# Altium schematic symbol library FinalProjectSchLib.SchLib: 27 symbols
Pins are listed as number, name and electrical type; pins without a type are passive.

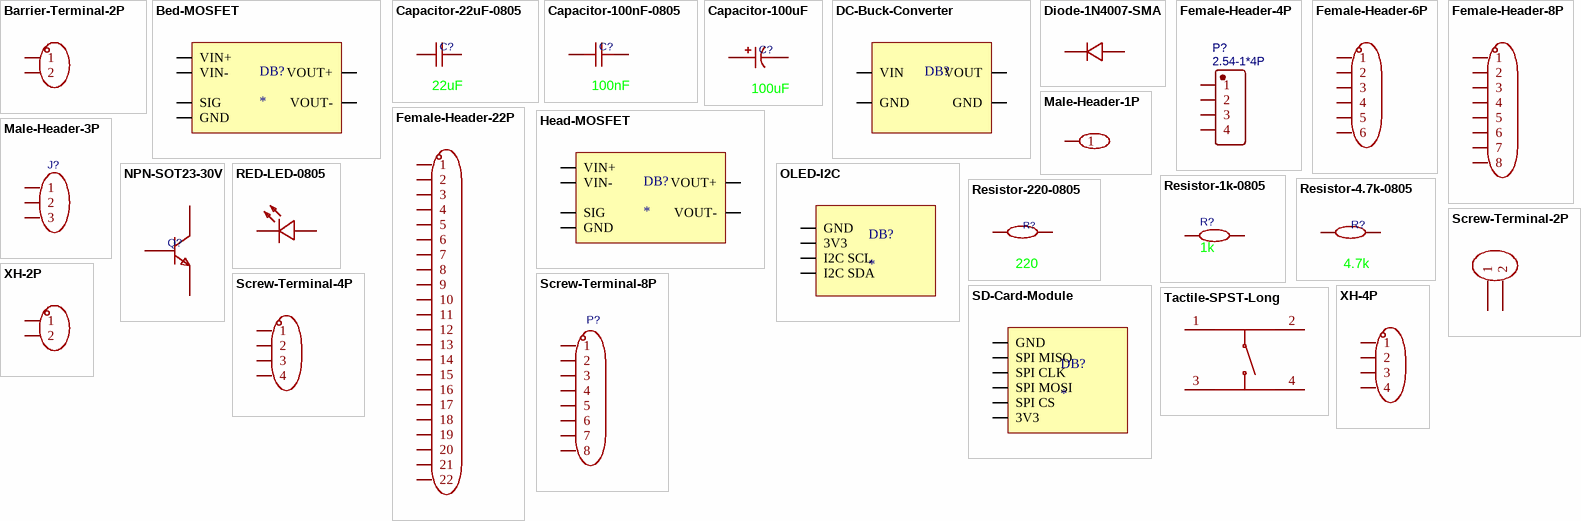
[diagram p0: symbols Barrier-Terminal-2P to XH-4P]

## Barrier-Terminal-2P
designator P?, comment dbt30s-7.62-2p-bk-p  (value not drawn)
Barrier Type:2-Side Pitch:7.62mm Number of Positions or Pins:1x2P Mounting Type:Straight Pin Location:Side Mount Number of Pins:2P Number of Rows:1 Number of PINs Per Row:2 Current Rating:15A Voltage Rating (Max):300V Wire Gauge - AWG:14~22 Wire Gauge - m; Manufacturer: DORABO(地博电气); AddInBom: yes; ModelId: 25793e1725c44f5c9873d21a6b0bc5c1; ModelName: CONN-TH_DBT30S-7.62-2P; ModelTransform: 659.0538,531.495,0,0,0,0,0,-150.276,-169.291; Barrier Type: 2-Side; Pitch: 7.62mm; Number of Positions or Pins: 1x2P; Number of PINs Per Row: 2; Current Rating: 15A; Voltage Rating (Max): 300V; Wire Gauge - AWG: 14~22; Symbol: DBT30S-7.62-2P; LCSC Part Name: 7.62mm 1x2P 直插 边脚 排数:1 每排P数:2; SupplierPart: C918082; ManufacturerPart: DBT30S-7.62-2P-BK-P; Supplier Footprint: 插件,P=7.62mm; JLCPCB Part Class: Extended Part; Datasheet: https://item.szlcsc.com/datasheet/DBT30S-7.62-2P-BK-P/993661.html; Supplier: LCSC; ConvertToPcb: yes; FootprintName: CONN-TH_DBT30S-7.62-2P; Mounting Type: Straight; Pin Location: Side Mount; Number of Pins: 2P; Number of Rows: 1; Wire Gauge - mm2: -; Operating Temperature: -40℃~+105℃; Color: Black
footprint Barrier-Terminal-2P
pins: 1, 2

## Bed-MOSFET
designator DB?
footprint Bed-MOSFET
pins: 1 VIN+, 2 VIN-, 3 SIG, 4 GND, 5 VOUT+, 6 VOUT-

## Capacitor-22uF-0805
designator C?, comment 22uF
Capacitance:22uF Tolerance:±20% Tolerance:±20% Voltage Rating:10V Temperature Coefficient:X5R; Manufacturer: SAMSUNG(三星); Symbol: CL21A226MPQNNNE; AddInBom: yes; ModelId: 8c88e81f49c6409b980720ec8953afb6; ModelName: C0805_L2.0-W1.3-H1.3; ModelTransform: 78.74,51.181,0,0,0,0,0,0.0005,0; Tolerance: ±20%; Voltage Rating: 10V; Temperature Coefficient: X5R; LCSC Part Name: 22uF ±20% 10V; SupplierPart: C29277; ManufacturerPart: CL21A226MPQNNNE; Supplier Footprint: 0805; JLCPCB Part Class: Extended Part; Datasheet: https://item.szlcsc.com/datasheet/CL21A226MPQNNNE/30029.html; Supplier: LCSC; ConvertToPcb: yes; FootprintName: C0805; Value: 22uF
footprint Capacitor-22uF-0805
pins: 1, 2

## Capacitor-100nF-0805
designator C?, comment 100nF
Capacitance:100nF Tolerance:±10% Tolerance:±10% Voltage Rating:50V Temperature Coefficient:X7R; Manufacturer: SAMSUNG(三星); Symbol: CL21B104KBCNNNC; AddInBom: yes; ModelId: 8c88e81f49c6409b980720ec8953afb6; ModelName: C0805_L2.0-W1.3-H1.3; ModelTransform: 78.74,51.181,0,0,0,0,0,0.0005,0; Tolerance: ±10%; Voltage Rating: 50V; Temperature Coefficient: X7R; LCSC Part Name: 100nF ±10% 50V; SupplierPart: C1711; ManufacturerPart: CL21B104KBCNNNC; Supplier Footprint: 0805; JLCPCB Part Class: Extended Part; Datasheet: https://item.szlcsc.com/datasheet/CL21B104KBCNNNC/2063.html; Supplier: LCSC; ConvertToPcb: yes; FootprintName: C0805; Value: 100nF
footprint Capacitor-100nF-0805
pins: 1, 2

## Capacitor-100uF
designator C?, comment 100uF
Capacitance:100uF Tolerance:±20% Tolerance:±20% Voltage Rating:50V Ripple Current:146mA@120Hz Equivalent Series Resistance(ESR):- Diameter:8mm Height - Seated (Max):10.2mm Lifetime:2800hrs@105℃ Operating Temperature:-55℃~+105℃ Operating Temperature:-55℃~+; Manufacturer: DMBJ(振宝佳); Symbol: RVT1H101M0810 100UF 50V; AddInBom: yes; ModelId: 9f9fc6857dc54a0ab164c419dde4584d; ModelName: CAP-SMD_BD8.0-L8.3-W8.3-LS9.1-FD; ModelTransform: 358.267,326.771,0,0,0,0,0,0,0; Tolerance: ±20%; Voltage Rating: 50V; LCSC Part Name: 100uF ±20% 50V; SupplierPart: C970687; ManufacturerPart: RVT1H101M0810 100UF 50V; Supplier Footprint: SMD,D8xL10.2mm; JLCPCB Part Class: Extended Part; Datasheet: https://item.szlcsc.com/datasheet/RVT1H101M0810%2520100UF%252050V/1060415.html; Supplier: LCSC; ConvertToPcb: yes; FootprintName: CAP-SMD_BD8.0-L8.3-W8.3-LS9.1-FD; Value: 100uF; Ripple Current: 146mA@120Hz; Equivalent Series Resistance(ESR): -; Diameter: 8mm; Height - Seated (Max): 10.2mm; Lifetime: 2800hrs@105℃; Operating Temperature: -55℃~+105℃
footprint Capacitor-100uF
pins: 1, 2

## DC-Buck-Converter
designator DB?
footprint DC-Buck-Converter
pins: 1 VIN, 2 GND, 3 VOUT, 4 GND

## Diode-1N4007-SMA
designator D?, comment s3mb-13-f  (value not drawn)
Diode Configuration:1 Independent Voltage - Forward(Vf@If):1.15V@3A Voltage - DC Reverse(Vr):1kV Current - Rectified:3A Reverse Leakage Current (Ir):10uA@1kV Non-Repetitive Peak Forward Surge Current:- Operating Junction Temperature Range:-65℃~+150℃ Opera; Manufacturer: DIODES(美台); AddInBom: yes; ModelId: 6383b9be09eb4825906cf4ce91b85cee; ModelName: SMB_L4.6-W3.6-LS5.3-RD; ModelTransform: 212.598,141.732,0,0,0,0,0,0,0; Voltage - DC Reverse(Vr): 1kV; Current - Rectified: 3A; Symbol: S3MB-13-F; Supplier Part: C70426; Supplier: LCSC; Manufacturer Part: S3MB-13-F; JLCPCB Part Class: Extended Part; LCSC Part Name: 1kV 3A; Supplier Footprint: SMB(DO-214AA); Datasheet: https://item.szlcsc.com/datasheet/S3MB-13-F/71522.html; ConvertToPcb: yes; FootprintName: SMB_L4.6-W3.6-LS5.3-RD; Diode Configuration: 1 Independent; Voltage - Forward(Vf@If): 1.15V@3A; Reverse Leakage Current (Ir): 10uA@1kV; Non-Repetitive Peak Forward Surge Current: -; Operating Junction Temperature Range: -65℃~+150℃
footprint Diode-1N4007-SMA
pins: 1, 2

## Female-Header-4P
designator P?, comment 2.54-1*4P
Manufacturer: BOOMELE(博穆精密); Manufacturer Part: 2.54-1*4P母; Contributor: LCSC; Supplier: LCSC; Supplier Part: C2718488; JLCPCB Part Class: Extended Part; spicePre: H; spiceSymbolName: 2.54-1*4P母
footprint Female-Header-4P
pins: 1, 2, 3, 4

## Female-Header-6P
designator P?, comment 2.54-1*6p  (value not drawn)
Holes Structure:1x6P Pitch:2.54mm Row Spacing:- Circular Hole / Square Hole:Square Hole Mounting Type:Through Hole Number of Rows:1 Number of Positions:6P Current Rating:3A Voltage Rating (Max):- Holes Direction:Top Insulation Height:8.5mm Contact Materia; Manufacturer: BOOMELE(博穆精密); Manufacturer Part: 2.54-1*6P母; Symbol: Header-Female-2.54_1x6; AddInBom: yes; ModelId: 72da3eac8a074bb0a56a474e38d1760c; ModelName: HDR-TH_6P-P2.54-V-F; ModelTransform: 619.684,94.488,0,0,0,0,0,0,-125.984; Holes Structure: 1x6P; Pitch: 2.54mm; Number of Positions: 6P; Current Rating: 3A; Holes Direction: Top; PIN Length: 3.2mm; Supplier: LCSC; Supplier Part: C40877; JLCPCB Part Class: Extended Part; LCSC Part Name: 1x6P 间距:2.54mm 直插; Supplier Footprint: 插件,P=2.54mm; Datasheet: https://item.szlcsc.com/datasheet/2.54-1*6P%25E6%25AF%258D/41861.html; ConvertToPcb: yes; FootprintName: HDR-TH_6P-P2.54-V-F; Row Spacing: -; Circular Hole / Square Hole: Square Hole; Mounting Type: Through Hole; Number of Rows: 1; Voltage Rating (Max): -; Insulation Height: 8.5mm; Contact Material: Brass; Contact Plating: Gold; Operating Temperature: -40℃~+105℃; Supplementary Features: -
footprint Female-Header-6P
pins: 1, 2, 3, 4, 5, 6

## Female-Header-8P
designator P?, comment 2.54-1*8p母环保  (value not drawn)
Holes Structure:1x8P Pitch:2.54mm Row Spacing:- Circular Hole / Square Hole:Square Hole Mounting Type:Through Hole Number of Rows:1 Number of Positions:8P Current Rating:3A Holes Direction:Top Insulation Height:8.5mm Contact Material:Brass Contact Plating; Manufacturer: BOOMELE(博穆精密); Symbol: Header-Female-2.54_1x8; AddInBom: yes; ModelId: 6ab1dac21d924c3d8eea0dfa46d42ff5; ModelName: HDR-TH_8P-P2.54-V-F; ModelTransform: 819.723,98.425,0,0,0,0,0,0,-118.11; Holes Structure: 1x8P; Pitch: 2.54mm; Number of Positions: 8P; Current Rating: 3A; Holes Direction: Top; PIN Length: 3.2mm; LCSC Part Name: 1x8P 间距:2.54mm 直插; SupplierPart: C27438; ManufacturerPart: 2.54-1*8P母环保; Supplier Footprint: 插件,P=2.54mm; JLCPCB Part Class: Extended Part; Datasheet: https://item.szlcsc.com/datasheet/2.54-1*8P%25E6%25AF%258D%25E7%258E%25AF%25E4%25BF%259D/28187.html; Supplier: LCSC; ConvertToPcb: yes; FootprintName: HDR-TH_8P-P2.54-V-F; Row Spacing: -; Circular Hole / Square Hole: Square Hole; Mounting Type: Through Hole; Number of Rows: 1; Insulation Height: 8.5mm; Contact Material: Brass; Contact Plating: Gold; Operating Temperature: -55℃~+105℃
footprint Female-Header-8P
pins: 1, 2, 3, 4, 5, 6, 7, 8

## Female-Header-22P
designator P?, comment fh2.54-09-22pzd  (value not drawn)
Holes Structure:1x22P Pitch:2.54mm Circular Hole / Square Hole:Square Hole Mounting Type:Through Hole Number of Rows:1 Number of Positions:22P Current Rating:3A Holes Direction:Top Insulation Height:8.5mm Contact Material:Brass Contact Plating:Gold Operat; Manufacturer: XUNPU(讯普); AddInBom: yes; ModelId: 676cdefe1703484f8a37377e34cf1f64; ModelName: HDR-TH_22P-P2.54-V-F; ModelTransform: 2199.99552,98.425,0,0,0,0,0,0,-125.984; Holes Structure: 1x22P; Pitch: 2.54mm; Number of Positions: 22P; Current Rating: 3A; Holes Direction: Top; PIN Length: 3.2mm; LCSC Part Name: 1x22P 间距:2.54mm 直插; SupplierPart: C7500786; ManufacturerPart: FH2.54-09-22PZD; Supplier Footprint: 插件,P=2.54mm; JLCPCB Part Class: Extended Part; Datasheet: https://item.szlcsc.com/datasheet/FH2.54-09-22PZD/8579590.html; Supplier: LCSC; ConvertToPcb: yes; SymbolName: FH2.54-09-22PZD; FootprintName: HDR-TH_22P-P2.54-V-F; Circular Hole / Square Hole: Square Hole; Mounting Type: Through Hole; Number of Rows: 1; Insulation Height: 8.5mm; Contact Material: Brass; Contact Plating: Gold; Operating Temperature: -40℃~+105℃
footprint Female-Header-22P
pins: 1, 2, 3, 4, 5, 6, 7, 8, 9, 10, 11, 12, 13, 14, 15, 16, 17, 18, 19, 20, 21, 22

## Head-MOSFET
designator DB?
footprint Head-MOSFET
pins: 1 VIN+, 2 VIN-, 3 SIG, 4 GND, 5 VOUT+, 6 VOUT-

## Male-Header-1P
designator J?, comment 2.54-1*1p针  (value not drawn)
Pin Structure:1x1P Pitch:- Row Spacing:- Circluar Pins/Square Pins:Pin Header Mounting Type:Through Hole Number of Rows:1 Number of Pins:1P Current Rating:3A Voltage Rating (Max):- Length of Mating Pin:6mm Insulation Height:2.5mm Length of End Connection; Manufacturer: BOOMELE(博穆精密); Symbol: Header-Male-2.54_1x1; AddInBom: yes; ModelId: 78ee2cec6acf483d85077eb0624e0da7; ModelName: HDR2.54-M-LI-1X1P; ModelTransform: 100,100,0,0,0,0,0,0,-118.11; Pin Structure: 1x1P; Current Rating: 3A; LCSC Part Name: 1x1P 方针 直插; SupplierPart: C81276; ManufacturerPart: 2.54-1*1P针; Supplier Footprint: 插件,P=2.54mm; JLCPCB Part Class: Extended Part; Datasheet: https://item.szlcsc.com/datasheet/2.54-1*1P%25E9%2592%2588/82426.html; Supplier: LCSC; ConvertToPcb: yes; FootprintName: HDR-TH_1P-P2.54-V-M; Pitch: -; Row Spacing: -; Circluar Pins/Square Pins: Pin Header; Mounting Type: Through Hole; Number of Rows: 1; Number of Pins: 1P; Voltage Rating (Max): -; Length of Mating Pin: 6mm; Insulation Height: 2.5mm; Length of End Connection Pin: 3mm; Contact Material: Brass; Contact Plating: Gold; Operating Temperature: -55℃~+105℃; Color: Black
footprint Male-Header-1P
pins: 1

## Male-Header-3P
designator J?, comment 2.54-1*3p针  (value not drawn)
Pin Structure:1x3P Pitch:2.54mm Row Spacing:- Circluar Pins/Square Pins:Pin Header Mounting Type:Through Hole Number of Rows:1 Number of Pins:3P Current Rating:3A Voltage Rating (Max):- Length of Mating Pin:6mm Insulation Height:2.5mm Length of End Connec; Manufacturer: BOOMELE(博穆精密); Symbol: Header-Male-2.54_1x3; AddInBom: yes; ModelId: 3b8cf4ff435f4f2b912293f2932d0598; ModelName: HDR-M-2.54_1x3; ModelTransform: 299.9994,100,0,0,0,0,0,0,-118.11; Pin Structure: 1x3P; Pitch: 2.54mm; Current Rating: 3A; LCSC Part Name: 1x3P 间距:2.54mm 方针 直插; SupplierPart: C49257; ManufacturerPart: 2.54-1*3P针; Supplier Footprint: 插件,P=2.54mm; JLCPCB Part Class: Extended Part; Datasheet: https://item.szlcsc.com/datasheet/2.54-1*3P%25E9%2592%2588/50265.html; Supplier: LCSC; ConvertToPcb: yes; FootprintName: HDR-TH_3P-P2.54-V-M-1; Row Spacing: -; Circluar Pins/Square Pins: Pin Header; Mounting Type: Through Hole; Number of Rows: 1; Number of Pins: 3P; Voltage Rating (Max): -; Length of Mating Pin: 6mm; Insulation Height: 2.5mm; Length of End Connection Pin: 3mm; Contact Material: Brass; Contact Plating: Gold; Operating Temperature: -40℃~+105℃; Color: Black
footprint Male-Header-3P
pins: 1, 2, 3

## NPN-SOT23-30V
designator Q?, comment ktc3265(range:160-320)  (value not drawn)
type:NPN Current - Collector(Ic):800mA Collector - Emitter Voltage VCEO:30V Pd - Power Dissipation:200mW DC Current Gain:160 DC Current Gain:160 Transition frequency(fT):120MHz Current - Collector Cutoff:100nA Vce Saturation(VCE(sat)):500mV Operating Temp; Manufacturer: CJ(江苏长电/长晶); Symbol: KTC3265 EY; AddInBom: yes; ModelId: 62a57c6760504a01965db6419a6d07df; ModelName: SOT-23-3P_L2.9-W1.3-H1.0-LS2.4-P0.95; ModelTransform: 98.425,114.173,0,180,0,0,0.0005,-0.0005,0; type: NPN; Current - Collector(Ic): 800mA; Collector - Emitter Voltage VCEO: 30V; Pd - Power Dissipation: 200mW; DC Current Gain: 160; Transition frequency(fT): 120MHz; Current - Collector Cutoff: 100nA; Vce Saturation(VCE(sat)): 500mV; Emitter-Base Voltage(Vebo): 5V; Number: 1 NPN; LCSC Part Name: hfe=160~320 NPN 电流:800mA 电压:30V; SupplierPart: C8531; ManufacturerPart: KTC3265(RANGE:160-320); Supplier Footprint: SOT-23; JLCPCB Part Class: Extended Part; Datasheet: https://item.szlcsc.com/datasheet/KTC3265(RANGE%253A160-320)/9026.html; Supplier: LCSC; ConvertToPcb: yes; FootprintName: SOT-23-3_L2.9-W1.3-P1.90-LS2.4-BR; Operating Temperature: -55℃~+150℃
footprint NPN-SOT23-30V
pins: 1 B, 2 E, 3 C

## OLED-I2C
designator DB?
footprint I2C-OLED
pins: 1 GND, 2 3V3, 3 I2C SCL, 4 I2C SDA

## RED-LED-0805
designator LED?, comment ncd0805r1_c84256  (value not drawn)
Lamp Holder Type:- Illumination Color:Red Voltage - Forward(Vf):1.6V~2.6V Voltage - Forward(Vf):1.6V~2.6V Power(Watts):65mW Test Current:25mA Wavelength - Dominant:615nm~630nm Wavelength - Dominant:615nm~630nm Peak Wavelength:630nm Peak Wavelength:630nm D; Manufacturer: 国星光电; Symbol: FC-2012HRK-620D; AddInBom: yes; ModelId: 23093642268545519703b953fc993978; ModelName: LED0805-RD; ModelTransform: 79.527,49.2125,0,0,0,0,0,0,0; Illumination Color: Red; Power(Watts): 65mW; Test Current: 25mA; Peak Wavelength: 630nm; Diode Configuration: Discrete Diode; Luminous Intensity: 195mcd; Viewing Angle: 130°; Half wave width: 15nm; LCSC Part Name: 片式发光二极管; SupplierPart: C84256; ManufacturerPart: NCD0805R1; Supplier Footprint: 0805; JLCPCB Part Class: Basic Part; Datasheet: https://item.szlcsc.com/datasheet/NCD0805R1/85425.html; Supplier: LCSC; ConvertToPcb: yes; FootprintName: LED0805-RD; Lamp Holder Type: -; Voltage - Forward(Vf): 1.6V~2.6V; Wavelength - Dominant: 615nm~630nm; Lens Color: -; Color Temperature: -; Mounting Style: Top-mount; Operating Temperature: -30℃~+85℃; Emitting Material: -; Lumens: -; ESD Withstand Voltage: -
footprint RED-LED-0805
pins: 1 -, 2 +

## Resistor-1k-0805
designator R?, comment 1k
Type:Thick Film Resistors Resistance:1kΩ Tolerance:±1% Tolerance:±1% Power(Watts): Overload Voltage (Max): Temperature Coefficient:±100ppm/℃ Temperature Coefficient:±100ppm/℃ Operating Temperature Range:-55℃~+155℃ Operating Temperature Range:-55℃~+155℃; Manufacturer: UNI-ROYAL(厚声); Symbol: 0805W8F1001T5E; AddInBom: yes; ModelId: b83c7c5430874b8eb2319a65d9433429; ModelName: R0805_L2.0-W1.3-H0.6; ModelTransform: 78.74,51.181,0,0,0,0,0,-0.0005,0; Value: 1kΩ; Tolerance: ±1%; LCSC Part Name: 1kΩ ±1% 125mW 厚膜电阻; SupplierPart: C17513; ManufacturerPart: 0805W8F1001T5E; Supplier Footprint: 0805; JLCPCB Part Class: Basic Part; Datasheet: https://atta.szlcsc.com/upload/public/pdf/source/20200306/C422600_1E6D84923E4A46A82E41ADD87F860B5C.pdf; Supplier: LCSC; ConvertToPcb: yes; FootprintName: R0805; Type: Thick Film Resistors; Temperature Coefficient: ±100ppm/℃; Operating Temperature Range: -55℃~+155℃
footprint Resistor-1k-0805
pins: 1, 2

## Resistor-4.7k-0805
designator R?, comment 4.7k
Type:Thick Film Resistors Resistance:4.7kΩ Tolerance:±1% Tolerance:±1% Power(Watts): Overload Voltage (Max): Temperature Coefficient:±100ppm/℃ Temperature Coefficient:±100ppm/℃ Operating Temperature Range:-55℃~+155℃ Operating Temperature Range:-55℃~+155℃; Manufacturer: UNI-ROYAL(厚声); Symbol: 0805W8F4701T5E; AddInBom: yes; ModelId: b83c7c5430874b8eb2319a65d9433429; ModelName: R0805_L2.0-W1.3-H0.6; ModelTransform: 78.74,51.181,0,0,0,0,0,-0.0005,0; Value: 4.7kΩ; Tolerance: ±1%; LCSC Part Name: 4.7kΩ ±1% 125mW 厚膜电阻; SupplierPart: C17673; ManufacturerPart: 0805W8F4701T5E; Supplier Footprint: 0805; JLCPCB Part Class: Basic Part; Datasheet: https://atta.szlcsc.com/upload/public/pdf/source/20200306/C422600_1E6D84923E4A46A82E41ADD87F860B5C.pdf; Supplier: LCSC; ConvertToPcb: yes; FootprintName: R0805; Type: Thick Film Resistors; Temperature Coefficient: ±100ppm/℃; Operating Temperature Range: -55℃~+155℃
footprint Resistor-4.7k-0805
pins: 1, 2

## Resistor-220-0805
designator R?, comment 220
Type:Thick Film Resistor Resistance:220Ω Tolerance:±1% Tolerance:±1% Power(Watts):125mW Voltage-Supply(Max):150V Temperature Coefficient:±100ppm/℃ Temperature Coefficient:±100ppm/℃ Operating Temperature:-55℃~+155℃ Operating Temperature:-55℃~+155℃; Manufacturer: UNI-ROYAL(厚声); Symbol: 0805W8F2200T5E; Value: 220Ω; AddInBom: yes; ModelId: b83c7c5430874b8eb2319a65d9433429; ModelName: R0805_L2.0-W1.3-H0.6; ModelTransform: 78.74,51.181,0,0,0,0,0,-0.0005,0; Tolerance: ±1%; Power(Watts): 125mW; Voltage-Supply(Max): 150V; Supplier: LCSC; Manufacturer Part: 0805W8F2200T5E; Supplier Part: C17557; JLCPCB Part Class: Basic Part; LCSC Part Name: 厚膜电阻 220Ω ±1%; Supplier Footprint: 0805; Datasheet: https://item.szlcsc.com/datasheet/0805W8F2200T5E/18245.html; ConvertToPcb: yes; FootprintName: R0805; Type: Thick Film Resistor; Temperature Coefficient: ±100ppm/℃; Operating Temperature: -55℃~+155℃
footprint Resistor-220-0805
pins: 1, 2

## Screw-Terminal-2P
designator P?, comment wj127-5.0-02p-14-00a  (value not drawn)
Number of Positions or Pins:1x2P Pitch:5mm Color:Green Mounting Type:Through Hole Number of Pins:2P Number of Rows:1 Number of PINs Per Row:2 Screw Specification:M2.5 Current Rating:15A Voltage Rating (Max):250V Wire Gauge - AWG:14~26 Wire Gauge - mm2:1.5; Manufacturer: KANGNEX(康奈克斯电气); Symbol: WJ127-5.0-2P; AddInBom: yes; ModelId: 0c699dafc1fb4759bdee4490ad46ecba; ModelName: CONN-TH_2P-P5.00_CPC3703CTR; ModelTransform: 416.145,318.897,0,0,0,0,-11.811,5.315,-149.606; Number of Positions or Pins: 1x2P; Pitch: 5mm; Number of PINs Per Row: 2; Screw Specification: M2.5; Current Rating: 15A; Voltage Rating (Max): 250V; Wire Gauge - AWG: 14~26; Wire Gauge - mm2: 1.5; LCSC Part Name: 1x2P 5mm 直插 排数:1 每排P数:2; SupplierPart: C3703; ManufacturerPart: WJ127-5.0-02P-14-00A; Supplier Footprint: 插件,P=5mm; JLCPCB Part Class: Extended Part; Datasheet: https://item.szlcsc.com/datasheet/WJ127-5.0-02P-14-00A/4105.html; Supplier: LCSC; ConvertToPcb: yes; FootprintName: CONN-TH_2P-P5.00_CPC3703CTR; Color: Green; Mounting Type: Through Hole; Number of Pins: 2P; Number of Rows: 1; Operating Temperature: -40℃~+105℃; Height Above Board: 10.14mm
footprint Screw-Terminal-2P
pins: 1, 2

## Screw-Terminal-4P
designator CN?, comment wj127-5.0-04p-14-00a  (value not drawn)
Number of Positions or Pins:1x4P Pitch:5mm Color:Green Mounting Type:Through Hole Number of Pins:4P Number of Rows:1 Number of PINs Per Row:4 Screw Specification:M2.5 Current Rating:15A Voltage Rating (Max):250V Wire Gauge - AWG:14~26 Wire Gauge - mm2:1.5; Manufacturer: KANGNEX(康奈克斯电气); Symbol: WJ127-5.0-4P; AddInBom: yes; ModelId: 30be887f740a4f6bacb9c64f3bb40a03; ModelName: CONN-TH_WJ5.00-LI-4P-127; ModelTransform: 807.0748,318.897,0,0,0,0,-9.843,7.874,-157.48; Number of Positions or Pins: 1x4P; Pitch: 5mm; Number of PINs Per Row: 4; Screw Specification: M2.5; Current Rating: 15A; Voltage Rating (Max): 250V; Wire Gauge - AWG: 14~26; Wire Gauge - mm2: 1.5; LCSC Part Name: 1x4P 5mm 直插 排数:1 每排P数:4; SupplierPart: C192779; ManufacturerPart: WJ127-5.0-04P-14-00A; Supplier Footprint: 插件,P=5mm; JLCPCB Part Class: Extended Part; Datasheet: https://item.szlcsc.com/datasheet/WJ127-5.0-04P-14-00A/225182.html; Supplier: LCSC; ConvertToPcb: yes; FootprintName: CONN-TH_4P-P5.00_WJ127-5.0-4P; Color: Green; Mounting Type: Through Hole; Number of Pins: 4P; Number of Rows: 1; Operating Temperature: -40℃~+105℃; Height Above Board: 10.14mm
footprint Screw-Terminal-4P
pins: 1, 2, 3, 4

## Screw-Terminal-8P
designator P?, comment jl500-50008gt1  (value not drawn)
Number of Positions or Pins:1x8P Pitch:5mm Color:Green Mounting Type:Through Hole Number of Pins:8P Number of Rows:1 Number of PINs Per Row:8 Screw Specification:M2.5 Current Rating:15A Voltage Rating (Max):300V Wire Gauge - AWG:14~26 Operating Temperatur; Manufacturer: JILN(锦凌); AddInBom: yes; ModelId: 024c30e13a7d47f6962f4acc81ebb916; ModelName: CONN-TH_JL500-50008GT1; ModelTransform: 1598.422,393.7,0,0,0,0,11.812,-16.181,-145.669; Number of Positions or Pins: 1x8P; Pitch: 5mm; Number of PINs Per Row: 8; Screw Specification: M2.5; Current Rating: 15A; Voltage Rating (Max): 300V; Wire Gauge - AWG: 14~26; Symbol: JL500-50008GT1; LCSC Part Name: 1x8P 5mm 直插 排数:1 每排P数:8; SupplierPart: C2802622; ManufacturerPart: JL500-50008GT1; Supplier Footprint: 插件,P=5mm; JLCPCB Part Class: Extended Part; Datasheet: https://item.szlcsc.com/datasheet/JL500-50008GT1/2944306.html; Supplier: LCSC; ConvertToPcb: yes; FootprintName: CONN-TH_JL500-50008GT1; Color: Green; Mounting Type: Through Hole; Number of Pins: 8P; Number of Rows: 1; Operating Temperature: -40℃~+105℃; Height Above Board: 14mm
footprint Screw-Terminal-8P
pins: 1, 2, 3, 4, 5, 6, 7, 8

## SD-Card-Module
designator DB?
footprint SD-Card-Module
pins: 1 GND, 2 SPI MISO, 3 SPI CLK, 4 SPI MOSI, 5 SPI CS, 6 3V3

## Tactile-SPST-Long
designator SW?, comment ts6685h-250gf  (value not drawn)
Circuit:SPST Actuator Style:Round Button Operating Force:2.5N Mounting Type:Through Hole Length:6mm Width:6mm Switch Height:8.5mm Contact Current:50mA Voltage Rating:12V With Lamp:- Life:-; Manufacturer: YE; Symbol: C13828; AddInBom: yes; ModelId: 1b2aa19db9484d8f9f922c3504714525; ModelName: SW-TH_4P-L6.0-W6.0-H5.0-LS6.5-P4.50; ModelTransform: 236.22,323.03,0,90,0,0,0,0,-137.795; Circuit: SPST; Operating Force: 2.5N; Switch Height: 8.5mm; Contact Current: 50mA; Voltage Rating: 12V; Supplier: LCSC; Supplier Part: C13828; Manufacturer Part: TS6685H-250gf; JLCPCB Part Class: Extended Part; LCSC Part Name: 6*6*8.5mm 直插 轻触开关; Supplier Footprint: 插件; Datasheet: https://item.szlcsc.com/datasheet/TS6685H-250gf/14483.html; ConvertToPcb: yes; FootprintName: SW-TH_4P-L6.0-W6.0-P4.50-LS6.5; Actuator Style: Round Button; Mounting Type: Through Hole; Length: 6mm; Width: 6mm; With Lamp: -; Life: -
footprint Tactile-SPST-Long
pins: 1, 2, 3, 4

## XH-2P
designator CN?, comment sh-xh2.54-2p  (value not drawn)
Pins Structure:1x2P Pitch:2.5mm Mounting Type:Through Hole Number of Pins:2P Number of Rows:1 Number of PINs Per Row:2 Current Rating:3A Contact Material:Brass Contact Plating:Tin Operating Temperature:-25℃~+85℃ Operating Temperature:-25℃~+85℃ Voltage Rat; Manufacturer: 深海电子; AddInBom: yes; ModelId: 0fe0934827c24a35ba1321e64395c7dc; ModelName: CONN-TH_2P-P2.50-XH2.54-2P; ModelTransform: 295.275,228.346,0,180,0,0,-0.002,-20.079,-137.795; Pins Structure: 1x2P; Pitch: 2.5mm; Number of PINs Per Row: 2; Current Rating: 3A; Voltage Rating: 250V; Plastic Material: PA66; Flame Retardant Rating: UL94V-0; Z-Height of the Board: 7.1mm; X-Length of Bottom Edge on Board (Spacing Line): 7.5mm; Y-Width of Bottom Edge on Board: 5.8mm; Symbol: SH-XH2.54-2P; LCSC Part Name: 1x2P 间距:2.5mm 直插; SupplierPart: C53261323; ManufacturerPart: SH-XH2.54-2P; Supplier Footprint: 插件,P=2.5mm; JLCPCB Part Class: Extended Part; Datasheet: https://item.szlcsc.com/datasheet/SH-XH2.54-2P/56320007.html; Supplier: LCSC; ConvertToPcb: yes; FootprintName: CONN-TH_2P-P2.50-XH2.54-2P; Mounting Type: Through Hole; Number of Pins: 2P; Number of Rows: 1; Contact Material: Brass; Contact Plating: Tin; Operating Temperature: -25℃~+85℃; Color: White
footprint XH-2P
pins: 1, 2

## XH-4P
designator CN?, comment sh-xh2.54-4p  (value not drawn)
Pins Structure:1x4P Pitch:2.5mm Mounting Type:Through Hole Number of Pins:4P Number of Rows:1 Number of PINs Per Row:4 Current Rating:3A Contact Material:Brass Contact Plating:Tin Operating Temperature:-25℃~+85℃ Operating Temperature:-25℃~+85℃ Voltage Rat; Manufacturer: 深海电子; AddInBom: yes; ModelId: d6f2687bc06b47fb8e014feb06c7c5ec; ModelName: CONN-TH_4P-P2.50_4PIN; ModelTransform: 492.125,224.409,0,180,0,0,0,17.717,-118.11; Pins Structure: 1x4P; Pitch: 2.5mm; Number of PINs Per Row: 4; Current Rating: 3A; Voltage Rating: 250V; Plastic Material: PA66; Flame Retardant Rating: UL94V-0; Z-Height of the Board: 7.1mm; X-Length of Bottom Edge on Board (Spacing Line): 12.5mm; Y-Width of Bottom Edge on Board: 5.8mm; LCSC Part Name: 1x4P 间距:2.5mm 直插; SupplierPart: C53261325; ManufacturerPart: SH-XH2.54-4P; Supplier Footprint: 插件,P=2.5mm; JLCPCB Part Class: Extended Part; Datasheet: https://item.szlcsc.com/datasheet/SH-XH2.54-4P/56320009.html; Supplier: LCSC; ConvertToPcb: yes; SymbolName: SH-XH2.54-4P; FootprintName: CONN-TH_4P-P2.50_4PIN; Mounting Type: Through Hole; Number of Pins: 4P; Number of Rows: 1; Contact Material: Brass; Contact Plating: Tin; Operating Temperature: -25℃~+85℃; Color: White
footprint XH-4P
pins: 1, 2, 3, 4